# EAGLE library part MPM3810GQB-33-Z (library MPM3810GQB-33-Z)
Switching Voltage Regulators 6V Input 3.3V Output 4Mhz, 1A Step-Down Source: Datasheet <https://www.monolithicpower.com/pub/media/document/MPM3810_r1.1.pdf>
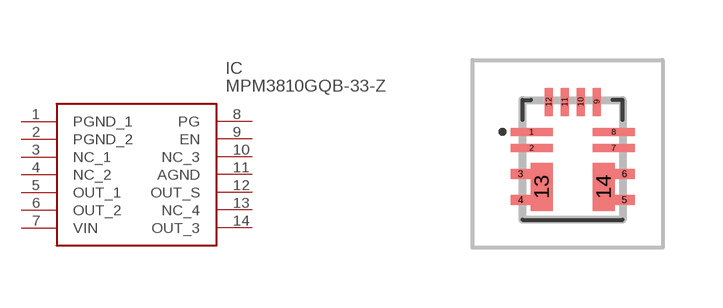
[diagram p0: symbol with the pads of MPM3810GQB33Z; footprint MPM3810GQB33Z]

Designator prefix IC

## MPM3810GQB-33-Z (Description: Switching Voltage Regulators 6V Input 3.3V Output 4Mhz, 1A Step-Down; Height: 1mm; Manufacturer_Name: Monolithic Power Systems (MPS); Manufacturer_Part_Number: MPM3810GQB-33-Z; Mouser_Part_Number: 946-MPM3810GQB-33-Z; Mouser_Price-Stock: https://www.mouser.co.uk/ProductDetail/Monolithic-Power-Systems-MPS/MPM3810GQB-33-Z?qs=WskeALMjHsooCNVHuZWMUQ%3D%3D)  [MPM3810GQB33Z]
1  PGND_1
2  PGND_2
3  NC_1
4  NC_2
5  OUT_1
6  OUT_2
7  VIN
8  PG
9  EN
10  NC_3
11  AGND
12  OUT_S
13  NC_4
14  OUT_3

## Footprint MPM3810GQB33Z (pad centres in mm)
MPM3810GQB-33-Z-2
smd 1.05 x 0.2: 1 -1.025,0.7; 2 -1.025,0.3; 7 1.025,0.3; 8 1.025,0.7
smd 0.5 x 0.25: 3 -1.3,-0.35; 4 -1.3,-1; 5 1.3,-1; 6 1.3,-0.35
smd 0.2 x 0.7: 9 0.6,1.45; 10 0.2,1.45; 11 -0.2,1.45; 12 -0.6,1.45
smd 0.55 x 1.2: 13 -0.775,-0.675; 14 0.775,-0.675